# EAGLE library part 6CONTACT_ULTRAFIT_R/A (library BlueShift)
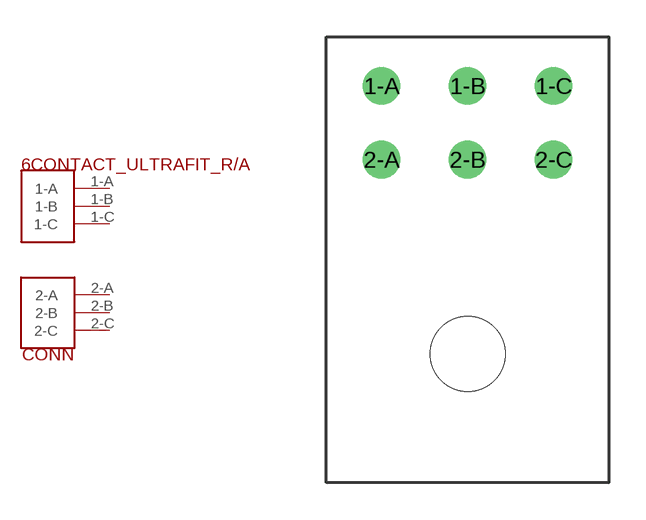
[diagram p3: symbol with the pads of 6CONTACT_ULTRAFIT_R/A; footprint 6CONTACT_ULTRAFIT_R/A]

Designator prefix CONN

## 6CONTACT_ULTRAFIT_R/A  [6CONTACT_ULTRAFIT_R/A]
1-A  1-A
1-B  1-B
1-C  1-C
2-A  2-A
2-B  2-B
2-C  2-C

## Footprint 6CONTACT_ULTRAFIT_R/A (pad centres in mm)
drill 1.02: 1-A -3.5,0; 1-B 0,0; 1-C 3.5,0; 2-A -3.5,-3; 2-B 0,-3; 2-C 3.5,-3
hole 3.05 at 0,-10.91